# EAGLE library part LT8610 (library Analog Devices)
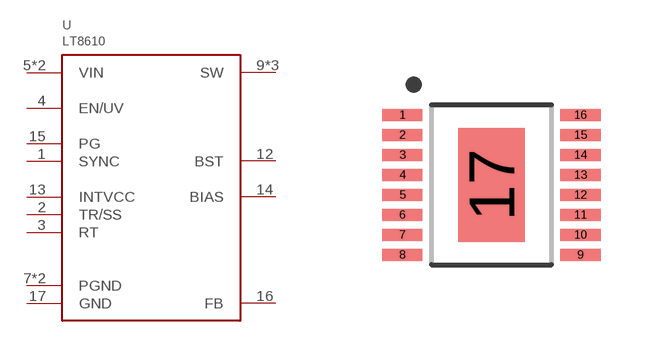
[diagram p16: symbol with the pads of MSOP16_EP; footprint MSOP16_EP]

Designator prefix U

## LT8610  [MSOP16_EP]
1  SYNC
2  TR/SS
3  RT
4  EN/UV
5  VIN
6  VIN
7  PGND
8  PGND
9  SW
10  SW
11  SW
12  BST
13  INTVCC
14  BIAS
15  PG
16  FB
17  GND

## Footprint MSOP16_EP (pad centres in mm)
smd 1 x 0.3: 1 -2.225,1.75; 2 -2.225,1.25; 3 -2.225,0.75; 4 -2.225,0.25; 5 -2.225,-0.25; 6 -2.225,-0.75; 7 -2.225,-1.25; 8 -2.225,-1.75; 9 2.225,-1.75; 10 2.225,-1.25; 11 2.225,-0.75; 12 2.225,-0.25; 13 2.225,0.25; 14 2.225,0.75; 15 2.225,1.25; 16 2.225,1.75
smd 1.651 x 2.845: 17 0,0